# Altium footprint library HCPL-0900J.PcbLib: 1 footprints
Each footprint in its own frame and in the unit in brackets; x right, y up, seen from the top. Pads: shape width x height; smd on the part's side, far side on the other; paste and mask are expansions set on the pad; w line width, h text height; cw(c..) or ccw(c..) is an arc to the next point about the centre after c.
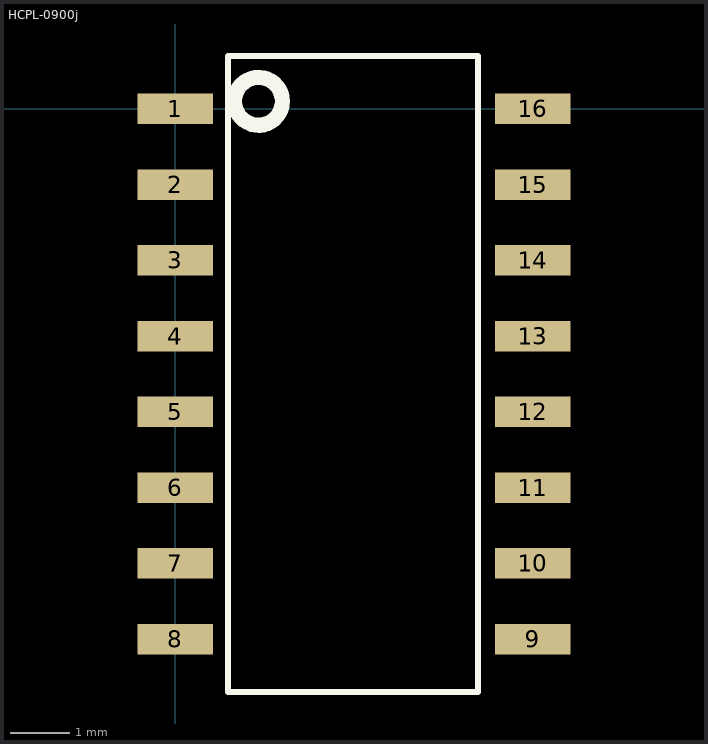
[diagram p0: the footprint, top view; thin cyan lines are the x and y axes]

## HCPL-0900j [mil]
pads (16):
  rect 50x20 smd: 1(0,0) 2(0,-50) 3(0,-100) 4(0,-150) 5(0,-200) 6(0,-250) 7(0,-300) 8(0,-350) 9(236.1,-350) 10(236.1,-300) 11(236.1,-250) 12(236.1,-200) 13(236.1,-150) 14(236.1,-100) 15(236.1,-50) 16(236.1,0)
Top Overlay:
  circle w10: c55,5 r15.81
  lines w3.94: 35,-385 200,-385 200,35 35,35 35,-385